# Altium footprint library ADUM4160BRIZ-RL.PcbLib: 3 footprints
Each footprint in its own frame and in the unit in brackets; x right, y up, seen from the top. Pads: shape width x height; smd on the part's side, far side on the other; paste and mask are expansions set on the pad; w line width, h text height; cw(c..) or ccw(c..) is an arc to the next point about the centre after c.
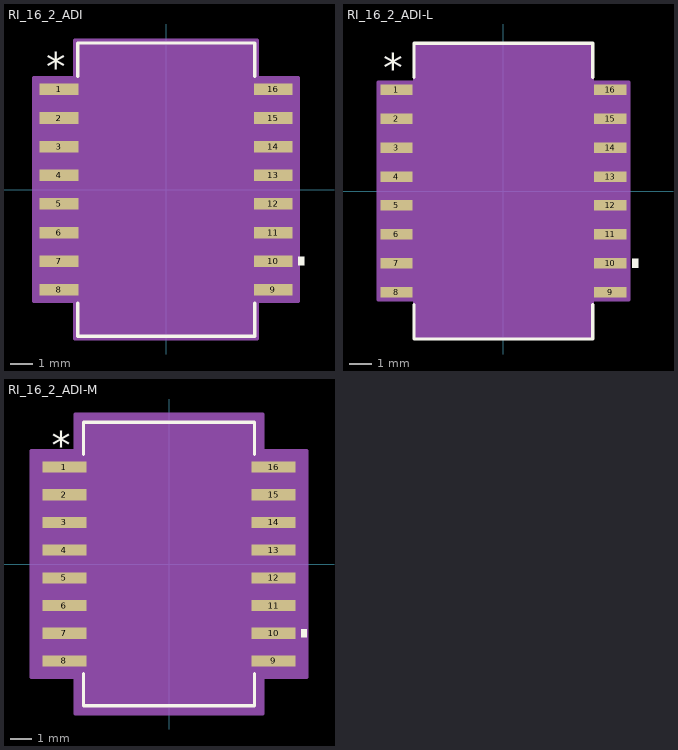
[diagram p0: the footprints below, top view; thin cyan lines are the x and y axes]

## RI_16_2_ADI [mm]
pads (16):
  rect 1.721x0.511 smd paste+0 mask+0: 1(-4.75,4.445) 2(-4.75,3.175) 3(-4.75,1.905) 4(-4.75,0.635) 5(-4.75,-0.635) 6(-4.75,-1.905) 7(-4.75,-3.175) 8(-4.75,-4.445) 9(4.75,-4.445) 10(4.75,-3.175) 11(4.75,-1.905) 12(4.75,-0.635) 13(4.75,0.635) 14(4.75,1.905) 15(4.75,3.175) 16(4.75,4.445)
Top Overlay:
  region: 5.865,-2.984 6.119,-2.984 6.119,-3.365 5.865,-3.365
  lines w0.152: -3.927,-5.033 -3.927,-6.502 3.927,-6.502 3.927,-5.033 ; -3.927,5.033 -3.927,6.502 3.927,6.502 3.927,5.033
  text "*" at -5.321,4.829 h1.27
Mechanical 13:
  lines w0: -0.305,6.375 ccw(c0,6.375) 0.305,6.375
  lines w0.025: -5.255,-4.675 -5.255,-4.215 -3.8,-4.215 -3.8,-4.675 -5.255,-4.675 ; -5.255,-3.405 -5.255,-2.945 -3.8,-2.945 -3.8,-3.405 -5.255,-3.405 ; -5.255,-2.135 -5.255,-1.675 -3.8,-1.675 -3.8,-2.135 -5.255,-2.135 ; -5.255,-0.865 -5.255,-0.405 -3.8,-0.405 -3.8,-0.865 -5.255,-0.865 ; -5.255,0.405 -5.255,0.865 -3.8,0.865 -3.8,0.405 -5.255,0.405 ; -5.255,1.675 -5.255,2.135 -3.8,2.135 -3.8,1.675 -5.255,1.675 ; -5.255,2.945 -5.255,3.405 -3.8,3.405 -3.8,2.945 -5.255,2.945 ; -5.255,4.215 -5.255,4.675 -3.8,4.675 -3.8,4.215 -5.255,4.215 ; -3.8,-6.375 3.8,-6.375 3.8,6.375 -3.8,6.375 -3.8,-6.375 ; 3.8,-4.675 3.8,-4.215 5.255,-4.215 5.255,-4.675 3.8,-4.675 ; 3.8,-3.405 3.8,-2.945 5.255,-2.945 5.255,-3.405 3.8,-3.405 ; 3.8,-2.135 3.8,-1.675 5.255,-1.675 5.255,-2.135 3.8,-2.135 ; 3.8,-0.865 3.8,-0.405 5.255,-0.405 5.255,-0.865 3.8,-0.865 ; 3.8,0.405 3.8,0.865 5.255,0.865 5.255,0.405 3.8,0.405 ; 3.8,1.675 3.8,2.135 5.255,2.135 5.255,1.675 3.8,1.675 ; 3.8,2.945 3.8,3.405 5.255,3.405 5.255,2.945 3.8,2.945 ; 3.8,4.215 3.8,4.675 5.255,4.675 5.255,4.215 3.8,4.215
  text "*" at -3.737,5.029 h1.27
Mechanical 15:
  region: -4.054,-4.954 -5.865,-4.954 -5.865,4.954 -4.054,4.954 -4.054,6.629 4.054,6.629 4.054,4.954 5.865,4.954 5.865,-4.954 4.054,-4.954 4.054,-6.629 -4.054,-6.629
  lines w0.152: -5.865,-4.954 -5.865,4.954 -4.054,4.954 -4.054,6.629 4.054,6.629 4.054,4.954 5.865,4.954 5.865,-4.954 4.054,-4.954 4.054,-6.629 -4.054,-6.629 -4.054,-4.954 -5.865,-4.954
3D body "RI_16_2_ADI.step": height 2.64, standoff 0, extent -5.255,-6.375 5.255,6.375

## RI_16_2_ADI-L [mm]
pads (16):
  rect 1.416x0.46 smd paste+0 mask+0: 1(-4.699,4.445) 2(-4.699,3.175) 3(-4.699,1.905) 4(-4.699,0.635) 5(-4.699,-0.635) 6(-4.699,-1.905) 7(-4.699,-3.175) 8(-4.699,-4.445) 9(4.699,-4.445) 10(4.699,-3.175) 11(4.699,-1.905) 12(4.699,-0.635) 13(4.699,0.635) 14(4.699,1.905) 15(4.699,3.175) 16(4.699,4.445)
Top Overlay:
  region: 5.661,-2.984 5.915,-2.984 5.915,-3.365 5.661,-3.365
  lines w0.152: -3.927,-5.002 -3.927,-6.502 3.927,-6.502 3.927,-5.002 ; -3.927,5.002 -3.927,6.502 3.927,6.502 3.927,5.002
  text "*" at -5.271,4.778 h1.27
Mechanical 13:
  lines w0: -0.305,6.375 ccw(c0,6.375) 0.305,6.375
  lines w0.025: -5.255,-4.675 -5.255,-4.215 -3.8,-4.215 -3.8,-4.675 -5.255,-4.675 ; -5.255,-3.405 -5.255,-2.945 -3.8,-2.945 -3.8,-3.405 -5.255,-3.405 ; -5.255,-2.135 -5.255,-1.675 -3.8,-1.675 -3.8,-2.135 -5.255,-2.135 ; -5.255,-0.865 -5.255,-0.405 -3.8,-0.405 -3.8,-0.865 -5.255,-0.865 ; -5.255,0.405 -5.255,0.865 -3.8,0.865 -3.8,0.405 -5.255,0.405 ; -5.255,1.675 -5.255,2.135 -3.8,2.135 -3.8,1.675 -5.255,1.675 ; -5.255,2.945 -5.255,3.405 -3.8,3.405 -3.8,2.945 -5.255,2.945 ; -5.255,4.215 -5.255,4.675 -3.8,4.675 -3.8,4.215 -5.255,4.215 ; -3.8,-6.375 3.8,-6.375 3.8,6.375 -3.8,6.375 -3.8,-6.375 ; 3.8,-4.675 3.8,-4.215 5.255,-4.215 5.255,-4.675 3.8,-4.675 ; 3.8,-3.405 3.8,-2.945 5.255,-2.945 5.255,-3.405 3.8,-3.405 ; 3.8,-2.135 3.8,-1.675 5.255,-1.675 5.255,-2.135 3.8,-2.135 ; 3.8,-0.865 3.8,-0.405 5.255,-0.405 5.255,-0.865 3.8,-0.865 ; 3.8,0.405 3.8,0.865 5.255,0.865 5.255,0.405 3.8,0.405 ; 3.8,1.675 3.8,2.135 5.255,2.135 5.255,1.675 3.8,1.675 ; 3.8,2.945 3.8,3.405 5.255,3.405 5.255,2.945 3.8,2.945 ; 3.8,4.215 3.8,4.675 5.255,4.675 5.255,4.215 3.8,4.215
  text "*" at -3.737,5.029 h1.27
Mechanical 15:
  region: -3.902,-4.777 -5.509,-4.777 -5.509,4.777 -3.902,4.777 -3.902,6.477 3.902,6.477 3.902,4.777 5.509,4.777 5.509,-4.777 3.902,-4.777 3.902,-6.477 -3.902,-6.477
  lines w0.152: -5.509,-4.777 -5.509,4.777 -3.902,4.777 -3.902,6.477 3.902,6.477 3.902,4.777 5.509,4.777 5.509,-4.777 3.902,-4.777 3.902,-6.477 -3.902,-6.477 -3.902,-4.777 -5.509,-4.777
3D body "RI_16_2_ADI.step": height 2.64, standoff 0, extent -5.255,-6.375 5.255,6.375

## RI_16_2_ADI-M [mil]
pads (16):
  rect 79.76x20.11 smd paste+0 mask+0: 1(-189.01,175) 2(-189.01,125) 3(-189.01,75) 4(-189.01,25) 5(-189.01,-25) 6(-189.01,-75) 7(-189.01,-125) 8(-189.01,-175) 9(189.01,-175) 10(189.01,-125) 11(189.01,-75) 12(189.01,-25) 13(189.01,25) 14(189.01,75) 15(189.01,125) 16(189.01,175)
Top Overlay:
  region: 238.89,-117.5 248.89,-117.5 248.89,-132.5 238.89,-132.5
  lines w6: -154.61,-198.16 -154.61,-255.98 154.61,-255.98 154.61,-198.16 ; -154.61,198.16 -154.61,255.98 154.61,255.98 154.61,198.16
  text "*" at -211.51,190.11 h50
Mechanical 13:
  lines w0: -12,250.98 ccw(c0,250.98) 12,250.98
  lines w1: -206.89,-184.06 -206.89,-165.94 -149.61,-165.94 -149.61,-184.06 -206.89,-184.06 ; -206.89,-134.06 -206.89,-115.94 -149.61,-115.94 -149.61,-134.06 -206.89,-134.06 ; -206.89,-84.06 -206.89,-65.94 -149.61,-65.94 -149.61,-84.06 -206.89,-84.06 ; -206.89,-34.06 -206.89,-15.94 -149.61,-15.94 -149.61,-34.06 -206.89,-34.06 ; -206.89,15.94 -206.89,34.06 -149.61,34.06 -149.61,15.94 -206.89,15.94 ; -206.89,65.94 -206.89,84.06 -149.61,84.06 -149.61,65.94 -206.89,65.94 ; -206.89,115.94 -206.89,134.06 -149.61,134.06 -149.61,115.94 -206.89,115.94 ; -206.89,165.94 -206.89,184.06 -149.61,184.06 -149.61,165.94 -206.89,165.94 ; -149.61,-250.98 149.61,-250.98 149.61,250.98 -149.61,250.98 -149.61,-250.98 ; 149.61,-184.06 149.61,-165.94 206.89,-165.94 206.89,-184.06 149.61,-184.06 ; 149.61,-134.06 149.61,-115.94 206.89,-115.94 206.89,-134.06 149.61,-134.06 ; 149.61,-84.06 149.61,-65.94 206.89,-65.94 206.89,-84.06 149.61,-84.06 ; 149.61,-34.06 149.61,-15.94 206.89,-15.94 206.89,-34.06 149.61,-34.06 ; 149.61,15.94 149.61,34.06 206.89,34.06 206.89,15.94 149.61,15.94 ; 149.61,65.94 149.61,84.06 206.89,84.06 206.89,65.94 149.61,65.94 ; 149.61,115.94 149.61,134.06 206.89,134.06 206.89,115.94 149.61,115.94 ; 149.61,165.94 149.61,184.06 206.89,184.06 206.89,165.94 149.61,165.94
  text "*" at -147.11,197.98 h50
Mechanical 15:
  region: -169.61,-205.06 -248.89,-205.06 -248.89,205.06 -169.61,205.06 -169.61,270.98 169.61,270.98 169.61,205.06 248.89,205.06 248.89,-205.06 169.61,-205.06 169.61,-270.98 -169.61,-270.98
  lines w6: -248.89,-205.06 -248.89,205.06 -169.61,205.06 -169.61,270.98 169.61,270.98 169.61,205.06 248.89,205.06 248.89,-205.06 169.61,-205.06 169.61,-270.98 -169.61,-270.98 -169.61,-205.06 -248.89,-205.06
3D body "RI_16_2_ADI.step": height 104.06, standoff 0, extent -206.89,-250.98 206.89,250.98